# EAGLE library part PIC16F886 (library omcPIC)
PIC16F886 - 28-Pin FLASH-Based 8-Bit CMOS Microcontroller with nanoWatt Technology High Performance RISC CPU: Only 35 instructions All single cycle instructions except branches Operating speed: DC - 20 MHz oscillator/clock input DC - 200 ns instruction cycle Interrupt capability 8-level deep hardware stack Direct, Indirect, and Relative Addressing modes Special Microcontroller Features: Precision Internal Oscillator Factory calibrated to ±1% Software selectable frequency range of 8MHz to 31kHz Software tuneable Two-Speed Start-up mode Crystal fail detect for critical applications Clock mode switching during operation for power savings Power saving SLEEP mode Wide operating voltage range - 2.0V to 5.5V Industrial and Extended temperature range Low power Power-on Reset (POR) Power-up Timer (PWRT) and Oscillator Start-up Timer (OST) Brown-out Detect (BOD) WEnhanced low-current Watchdof Timer (WDT) with on-chip oscillator (software selectable nominal 268s with full prescalar) with software enable Multiplexed Master clear with pull-up/input pin Programmable code protection High Endurance FLASH/EEPROM Cell 100,000 write FLASH endurance 1,000,000 write EEPROM endurance FLASH/Data EEPROM Retention: > 40 years Programm memory Read/Write during run time In-Cuircuit Debugger (on board) Low Power Features: Standby Current: 50nA @ 2.0V, typical Operating Current: 11µA @ 32 kHz, 2.0V, typical 220µA @ 1 MHz, 2.0V, typical Watchdog Timer Current: 1µA @ 2.0V, typical Peripheral Features: 24 I/O pins with individual direction control: High current sink/source for direct LED drive Interrupt-on-Change pin Individually programmable weak pull-ups Ultra Low-Power Wake-up (ULPWU) Analog comparator module with: Two analog comparator Programmable on-chip comparator voltage reference (CVREF) module Fixed voltage reference (0.6V) Comparator inputs and output externally accessible SR Latch mode Ecternal Timer1 Gate (count enable) A/D Converter: 10-bit resolution and 11 channels Timer0: 8-bit timer/counter with 8-bit programmable prescaler Enhanced Timer1: 16-bit timer/counter with prescaler External Gate Input mode Dedicated low-power 32kHz oscillator Timer2: 8-bit timer/counter with 8-bit period register, prescaler and postscaler Enhanced Capture, Compare, PWM+ module: 16-bit capture, max. resolution 12.5ns Compare, max resolution 200ns 10-bit PWM with 1, 2 or 4 output channels, programmable "dead time", max frequency 20kHz PWM output steering control Capture, Compare, PWM module: 16-bit capture, max. resolution 12.5ns Compare, max resolution 200ns 10-bit PWM, max frequency 20kHz Enhanced USART module: Supports RS485, RS232 and LIN 2.0 Auto-Baud Detect Auto-Wake-Up on Start bit In-Circuit Serial Programming (ICSP) via two pins Master Synchronous Serial Port (MSSP) module supporting 3-wire SPI (all 4 modes) and I2C master and slave modes with I2C address mask Reference: Microchip Datasheet <ww1.microchip.com/downloads/en/DeviceDoc/41291D.pdf> Reichelt Datasheet <http://cdn-reichelt.de/documents/datenblatt/A300/PIC16F88x.pdf>
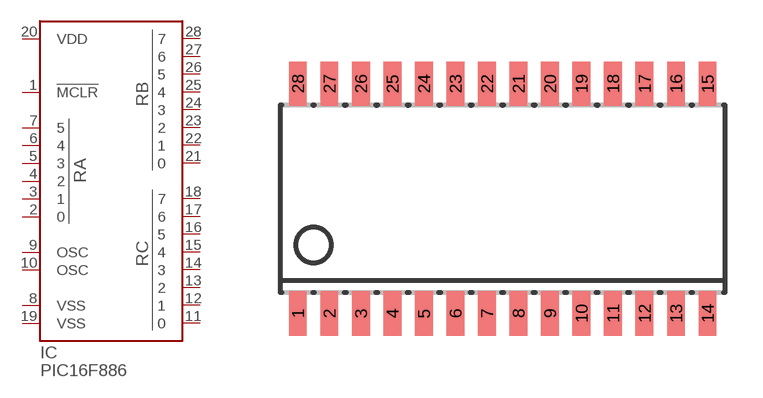
[diagram p1: symbol with the pads of SOIC28-7.62; footprint SOIC28-7.62]

Designator prefix IC

## PIC16F886-I/SO (DIST#REICHELT#: PIC 16F886-I/SO; VALUE: PIC16F886; VENDOR#: Microchip,PIC16F886-I/SO)  [SOIC28-7.62]
1  !MCLR  in
2  0
3  1
4  2
5  3
6  4
7  5
8  VSS  pwr
9  OSC
10  OSC
11  0
12  1
13  2
14  3
15  4
16  5
17  6
18  7
19  VSS  pwr
20  VDD  pwr
21  0
22  1
23  2
24  3
25  4
26  5
27  6
28  7

## Footprint SOIC28-7.62 (pad centres in mm)
SOIC28 SMD 18mm×7.5mm Wikipedia <https://en.wikipedia.org/wiki/Small_Outline_Integrated_Circuit> Landing Pattern <http://practicalcomponents.com/assets/cfc/Attachments.cfc?method=Download&AttachmentID=895>
smd 0.72 x 1.78: 1 -8.255,-5.299; 2 -6.985,-5.299; 3 -5.715,-5.299; 4 -4.445,-5.299; 5 -3.175,-5.299; 6 -1.905,-5.299; 7 -0.635,-5.299; 8 0.635,-5.299; 9 1.905,-5.299; 10 3.175,-5.299; 11 4.445,-5.299; 12 5.715,-5.299; 13 6.985,-5.299; 14 8.255,-5.299; 15 8.255,3.949; 16 6.985,3.949; 17 5.715,3.949; 18 4.445,3.949; 19 3.175,3.949; 20 1.905,3.949; 21 0.635,3.949; 22 -0.635,3.949; 23 -1.905,3.949; 24 -3.175,3.949; 25 -4.445,3.949; 26 -5.715,3.949; 27 -6.985,3.949; 28 -8.255,3.949